# Altium footprint library Mos_ST_Electronics_STD35P6LLF6_35A.PcbLib: 1 footprints
Each footprint in its own frame and in the unit in brackets; x right, y up, seen from the top. Pads: shape width x height; smd on the part's side, far side on the other; paste and mask are expansions set on the pad; w line width, h text height; cw(c..) or ccw(c..) is an arc to the next point about the centre after c.
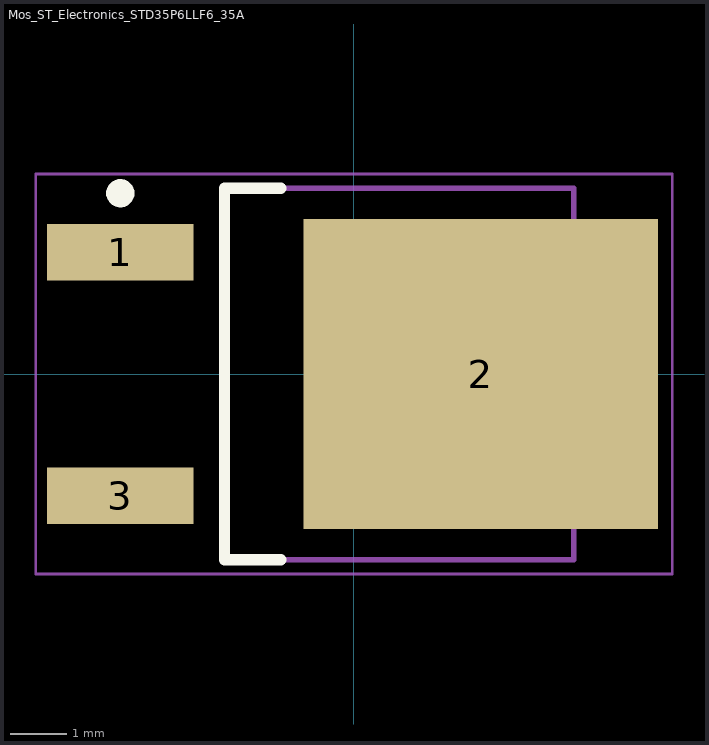
[diagram p0: the footprint, top view; thin cyan lines are the x and y axes]

## Mos_ST_Electronics_STD35P6LLF6_35A [mm]
height 2.4
pads (3):
  rect 2.6x1 smd: 1(-4.15,2.16) 3(-4.15,-2.16)
  rect 6.3x5.5 smd: 2(2.25,0)
Top Overlay:
  circle w0.25: c-4.15,3.21 r0.125
  lines w0.2: -1.3,-3.3 -2.3,-3.3 -2.3,3.3 -1.3,3.3
Mechanical 13:
  lines w0.1: -2.3,-3.3 3.9,-3.3 3.9,3.3 -2.3,3.3 -2.3,-3.3
Mechanical 15:
  lines w0.05: -5.65,-3.55 5.65,-3.55 5.65,3.55 -5.65,3.55 -5.65,-3.55
  lines w0.1: -0.5,0 0.5,0 ; 0,-0.5 0,0.5
3D body "DPAK216P972X240-3N.step": height 2.4, standoff 0, extent -4.35,-3.3 5.375,3.3